# Altium footprint library 分立器件.PcbLib: 102 footprints (part 2 of 7)
Each footprint in its own frame and in the unit in brackets; x right, y up, seen from the top. Pads: shape width x height; smd on the part's side, far side on the other; paste and mask are expansions set on the pad; w line width, h text height; cw(c..) or ccw(c..) is an arc to the next point about the centre after c.
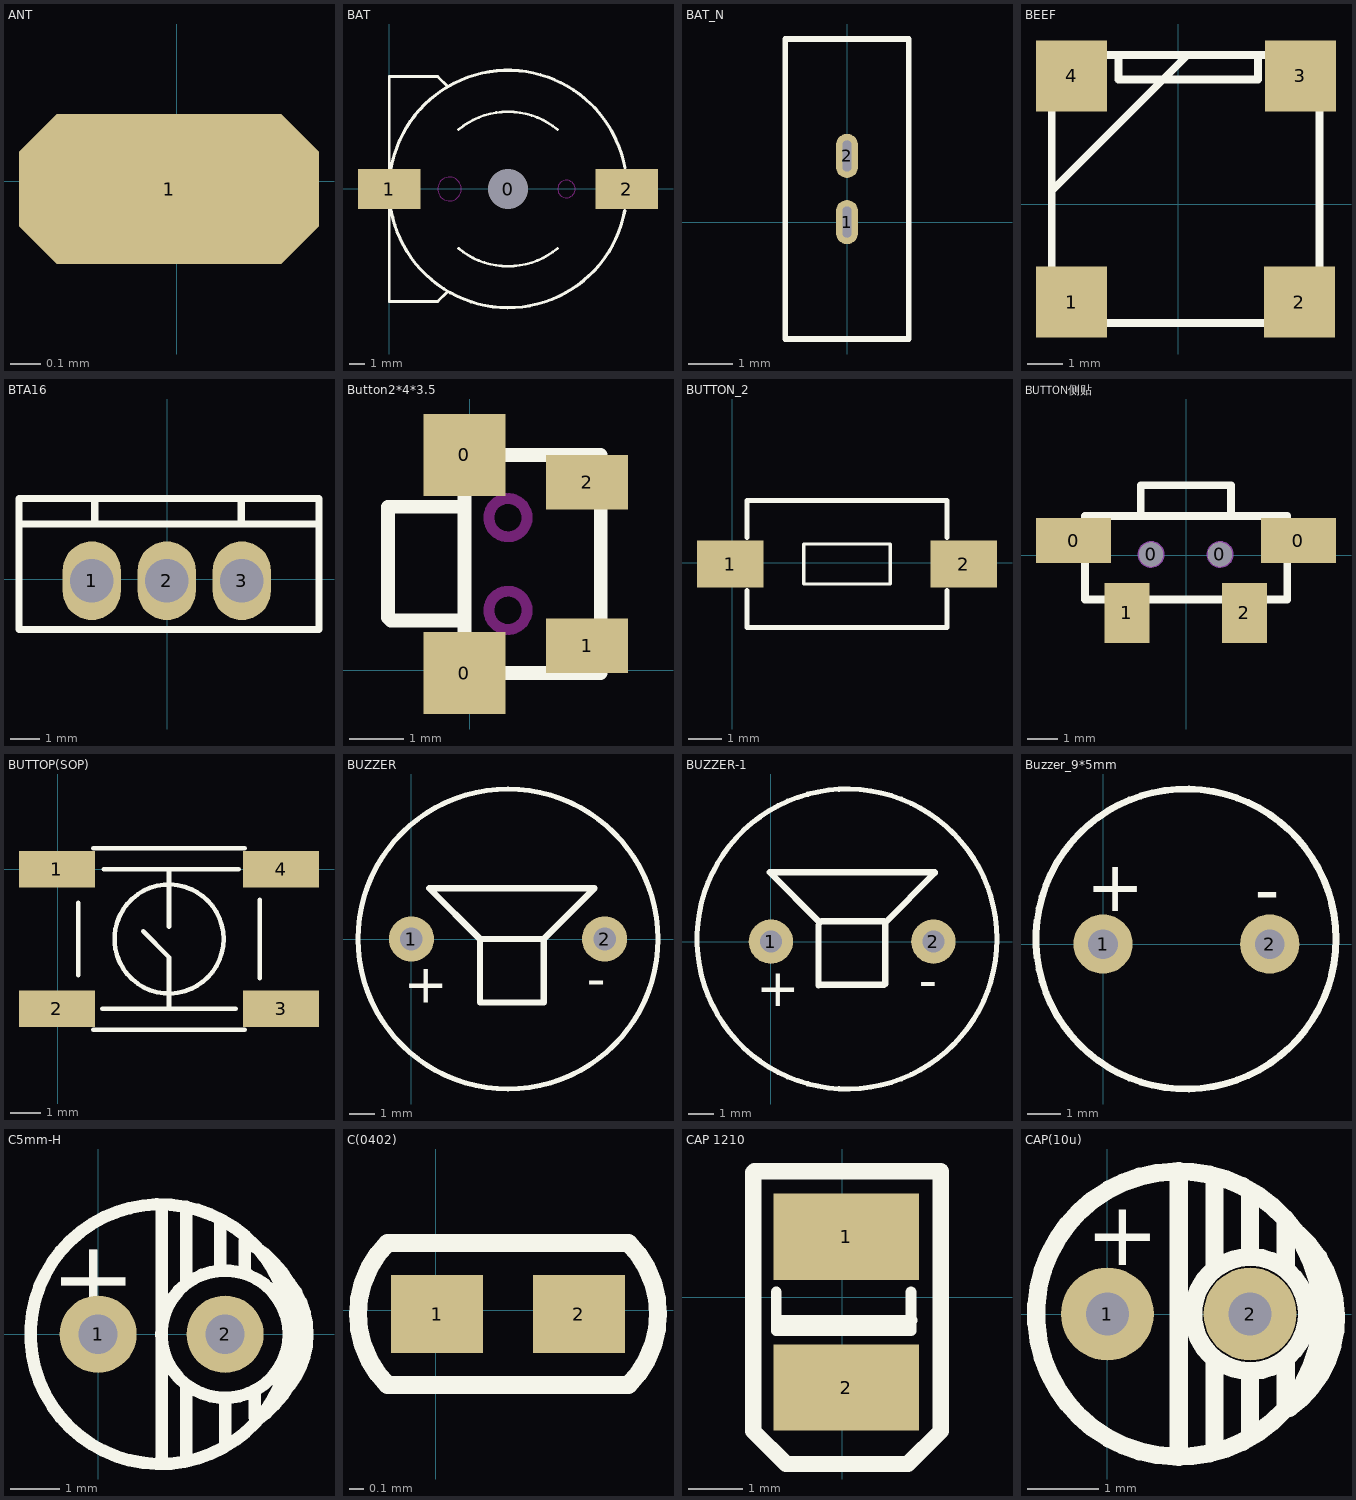
[diagram p1: the footprints below, top view; thin cyan lines are the x and y axes]

## ANT [mm]
pads (1):
  oct 1x0.5 smd: 1(-0.025,-0.025)

## BAT [mil]
pads (3):
  round 100 hole 100: 0(300,-1)
  rect 158x100 smd: 1(0,-1) 2(600,-1)
Top Overlay:
  lines w7: 0,-53.77 0,-285 122.83,-285 ; 0,51.08 0,283 122.83,283 ; 122.83,-284.46 145.47,-261.83 ; 122.83,282.46 146.46,258.84 ; 175,-151 ccw(c300,-1) 424.89,-151.09 ; 175.23,149.19 cw(c300,-1) 424.89,149.09
  lines w8: 4.55,51.08 cw(c300,-1) 595.3,51.87 ; 4.68,-53.77 ccw(c300,-1) 594.93,-55.92
Keep-Out Layer:
  circle w1: c447.64,-1 r22
  circle w1: c152.36,-1 r30

## BAT_N [mm]
pads (2):
  oval 0.5x1 hole 0.2 slot 0.7 at 90 deg: 1(0,0) 2(0,1.5)
Top Overlay:
  lines w0.127: -1.4,-2.65 -1.4,4.15 1.4,4.15 1.4,-2.65 -1.4,-2.65

## BEEF [mm]
pads (4):
  rect 2x2 smd: 1(-2.997,-2.743) 2(3.404,-2.743) 3(3.429,3.607) 4(-2.997,3.607)
Top Overlay:
  lines w0.22: -3.556,-3.309 -3.556,4.191 3.944,4.191 ; -3.556,0.381 0.254,4.191 ; -3.538,-3.327 3.962,-3.327 3.962,4.173 ; -3.505,2.819 -3.48,2.819 -2.159,4.14 ; -1.676,4.166 -1.676,3.505 2.235,3.505 2.235,4.191

## BTA16 [mm]
pads (3):
  oval 2x2.7 hole 1.5: 1(-2.585,-0.051) 2(-0.01,-0.051) 3(2.565,-0.051)
Top Overlay:
  lines w0.254: -5.035,1.899 5.115,1.899 ; -2.485,2.024 -2.485,2.724 ; 2.54,1.974 2.54,2.699 ; 5.215,1.999 5.215,2.774 -5.085,2.774 -5.085,-1.726 5.215,-1.726 5.215,2.649

## Button2*4*3.5 [mm]
pads (4):
  rect 1.5x1.5 smd: 0(-0.102,-0.051) 0(-0.102,3.949)
  rect 1.5x1 smd: 1(2.148,0.449) 2(2.148,3.449)
Top Overlay:
  lines w0.254: -0.102,0.914 -1.448,0.914 -1.502,0.968 -1.502,3 -0.102,3 ; -0.102,-0.051 -0.102,3.949 2.398,3.949 2.398,-0.051 -0.102,-0.051
Keep-Out Layer:
  circle w0.2: c0.698,1.099 r0.35
  circle w0.2: c0.698,2.799 r0.35

## BUTTON_2 [mm]
pads (2):
  rect 2x1.4 smd: 1(-0.058,-0.032) 2(6.942,-0.032)
Top Overlay:
  lines w0.1: 2.142,-0.632 4.742,-0.632 4.742,0.568 2.142,0.568 2.142,-0.632
  lines w0.15: 0.442,-0.832 0.442,-1.932 6.442,-1.932 6.442,-0.832 ; 0.442,0.768 0.442,1.868 6.442,1.868 6.442,0.768

## BUTTON侧贴 [mm]
pads (6):
  rect 2.5x1.5 smd: 0(-3.746,0.491) 0(3.746,0.491)
  round 0.8 hole 0.8: 0(-1.163,0.031) 0(1.127,0.031)
  rect 1.5x2 smd: 1(-1.973,-1.914) 2(1.947,-1.914)
Top Overlay:
  lines w0.254: -1.503,1.341 -1.503,2.341 1.497,2.341 1.497,1.341 ; -3.363,-1.469 -3.363,1.311 3.377,1.311 3.377,-1.469 -3.363,-1.469
Mechanical 1:
  circle w0.1: c1.137,0.031 r0.4
  circle w0.1: c-1.163,0.031 r0.4

## BUTTOP(SOP) [mm]
pads (4):
  rect 2.5x1.2 smd: 1(-0.025,0) 2(-0.025,-4.6) 3(7.375,-4.6) 4(7.375,0)
Top Overlay:
  circle w0.15: c3.675,-2.3 r1.8
  lines w0.15: 0.675,-3.5 0.675,-1.1 ; 1.175,-5.3 6.175,-5.3 ; 1.175,0.7 6.175,0.7 ; 1.475,-4.6 5.875,-4.6 ; 1.525,0 5.975,0 ; 2.825,-2.05 3.675,-2.9 3.675,-4.6 ; 3.675,-1.9 3.675,0 ; 6.675,-3.6 6.675,-1

## BUZZER [mil]
pads (2):
  round 70 hole 35: 1(0,0) 2(299.21,0)
Top Overlay:
  circle w8: c149.61,0 r232.28
  lines w9.84: 106.3,0 106.3,-98.42 204.72,-98.42 204.72,0 ; 106.3,0 27.56,78.74 283.46,78.74 204.72,0 ; 106.3,0 204.72,0
  text "+" at -11.81,-98.42 h60
  text "-" at 271.65,-90.55 h60

## BUZZER-1 [mil]
pads (2):
  round 70 hole 35: 1(0,0) 2(255.91,0)
Top Overlay:
  circle w8: c119.78,4 r236.22
  lines w9.84: -2,109 77,30 ; 1.57,109 258,109 ; 75,-69 75,25.91 ; 79.58,-68 178,-68 ; 79.58,32 178,32 ; 179,29 258,108 ; 180,-66.91 180,28
  text "-" at 233,-89 h60
  text "+" at -23,-102 h60

## Buzzer_9*5mm [mil]
pads (2):
  round 70 hole 35: 1(0,0) 2(196.85,0)
Top Overlay:
  circle w8: c97.96,6 r177.17
  text "+" at -20,39 h60
  text "-" at 179,35 h60

## C5mm-H [mil]
pads (2):
  round 62 hole 31.5: 1(0,0) 2(102,0)
Top Overlay:
  circle w10: c102,0 r51.18
  circle w10: c50,0 r104.33
  lines w10: 51,-102.36 51,102.36 ; 70.69,-98.43 70.69,-43.31 ; 70.69,43.31 70.69,102.36 ; 98.24,55.12 98.24,90.55 ; 102.18,-86.61 102.18,-55.12 ; 117.93,51.18 117.93,74.8 cw(c80.53,0) 127.39,-69.27 ; 125.8,-66.93 125.8,-47.24 ; 141.55,53.15 cw(c102,0) 147.97,-47.7
  text "+" at -29.53,76.77 h60

## C(0402) [mm]
pads (2):
  rect 0.65x0.55 smd: 1(0.008,-0.025) 2(1.008,-0.025)
Top Overlay:
  lines w0.127: -0.342,-0.525 cw(c0.158,-0.025) -0.342,0.475 1.358,0.475 cw(c0.858,-0.025) 1.358,-0.525 -0.342,-0.525

## CAP 1210 [mm]
pads (2):
  rect 2.7x1.6 smd: 1(0.076,1.121) 2(0.076,-1.679)
Top Overlay:
  lines w0.2: -1.225,0.096 -1.225,-0.627 1.275,-0.627 1.275,0.096 ; -1.205,-0.432 1.295,-0.432
  lines w0.3: -1.651,2.311 -1.651,-2.489 -1.041,-3.099 1.219,-3.099 1.829,-2.489 1.829,2.337 -1.626,2.337

## CAP(10u) [mm]
pads (2):
  round 1.3 hole 0.6: 1(0,0) 2(2,0)
Top Overlay:
  circle w0.254: c2,0 r0.8
  circle w0.254: c1,0 r2
  lines w0.254: 1,-2 1,2 ; 1.5,-1.9 1.5,-0.7 ; 1.5,0.7 1.5,1.9 ; 2,-1.7 2,-0.8 ; 2,0.8 2,1.7 ; 2.5,1.25 cw(c1.65,-0.05) 2.548,-1.317 ; 2.5,-1.25 2.5,-0.65 ; 2.5,0.65 2.5,1.25 ; 3.05,-0.45 3.05,0.5
  text "+" at -0.3,0.686 h0.9